# Altium schematic symbol library МЦТР.00010582.00.002.SCHLIB: 23 symbols
Pins are listed as number, name and electrical type; pins without a type are passive.

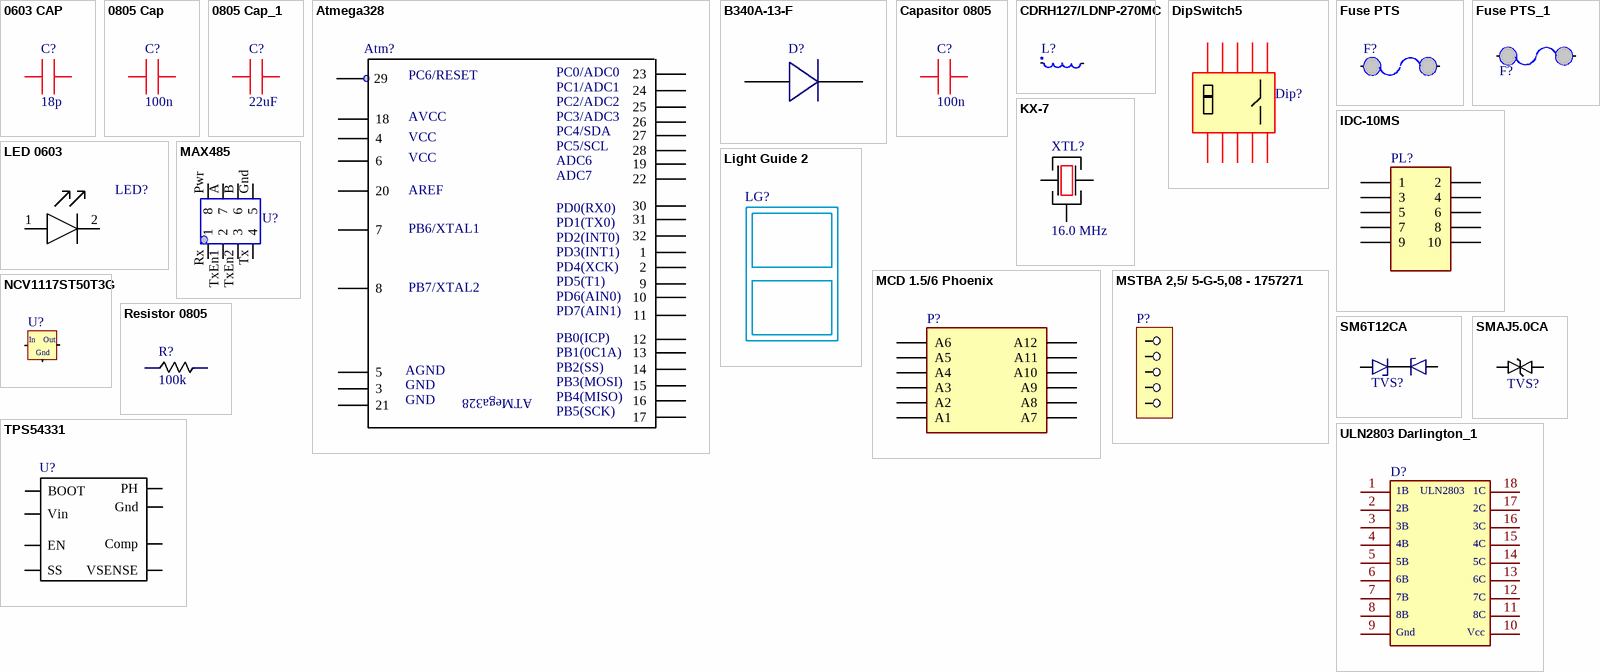
[diagram p0: symbols 0603 CAP to ULN2803 Darlington_1]

## 0603 CAP
designator C?, comment 18p
Part Description: Multilayer Ceramic Capacitor 50 V 18 pF C0G 0603 5%; Part Number: CC0603JRNPO9BN180
footprint 0603_Cap
pins: 1, 2

## 0805 Cap
designator C?, comment 100n
Part Description: Multilayer Ceramic Capacitor 50 V 0.1uF Y5V 0603 -20/+80%; Part Number: CC0603ZRY5V9BB104
footprint 0603_Cap
pins: 1, 2

## 0805 Cap_1
designator C?, comment 22uF
Part Description: Multilayer Ceramic Capacitor 16V 22uF X5R 1206 10%; Part Number: CC1206KKX5R7BB226
footprint 1206_CAP
pins: 1, 2

## Atmega328
designator Atm?
Part Description: 8-bit MCU 32KB 20MHz 1.8V-5.5V; Part Number: Atmega328P-AU
footprint Atmega168
pins: 1, 2, 3, 4, 5, 6, 7, 8, 9, 10, 11, 12, 13, 14, 15, 16, 17, 18, 19, 20, 21, 22, 23, 24, 25, 26, 27, 28, 29, 30, 31, 32
text: PC6/RESET; PC0/ADC0; PC1/ADC1; PC2/ADC2; AVCC; PC3/ADC3; VCC; PC4/SDA; PC5/SCL; ADC6; ADC7; AREF; PD0(RX0); PD1(TX0); PB6/XTAL1; PD2(INT0); PD3(INT1); PD4(XCK); PD5(T1); PB7/XTAL2; PD6(AIN0); PD7(AIN1); PB0(ICP); PB1(0C1A); PB2(SS); AGND; PB3(MOSI); GND; ATMega328; PB4(MISO); PB5(SCK)

## B340A-13-F
designator D?
Part Description: B340A-13-F; Part Number: Schottky Diode 40V 3A
footprint B340A-13-F
pins: 1, 2 1

## Capasitor 0805
designator C?, comment 100n
Part Description: Multilayer Ceramic Capacitor 50 V 0.1uF Y5V 0603 -20/+80%; Part Number: CC0603ZRY5V9BB104
footprint 0603_Cap
pins: 1, 2

## CDRH127/LDNP-270MC
designator L?
Part Description: Power Inductors - SMD 22uH 4.7A; Part Number: CDRH127/LDNP-220MC
footprint CDRH127/LDNP-270MC,
pins: 1, 2

## DipSwitch5
designator Dip?
Part Description: Bit switch 5 bits; Part Number: DPL-05-V
footprint DipSwitch 5
pins: 1, 2 3, 3 5, 4 7, 5 9, 12 10, 13 8, 14 6, 15 4, 16 2

## Fuse PTS
designator F?
Part Description: Resettable Fuses - PPTC 30V 300MA; Part Number: MF-MSMF030-2
footprint Fuse USMF030
pins: 0, 1

## Fuse PTS_1
designator F?
Part Description: Resettable Fuses - PPTC 30V 50MA; Part Number: MF-USMF005-2
footprint 1210_MF
pins: 1, 2

## IDC-10MS
designator PL?
Part Description: Socket; IDC; male; PIN: 10; straight;; Part Number: DS1013-10SSIB1-B-0
footprint IDC-10MS
pins: 1, 2, 3, 4, 5, 6, 7, 8, 9, 10

## KX-7
designator XTL?, comment 16.0 MHz
Part Description: CRYSTAL 16.0000MHZ 18PF; Part Number: Geyer KX-7 16.0 MHz
footprint KX-7 XTAL
pins: 1 5, 2, 3 5

## LED 0603
designator LED?
Part Number: KP-1608SGC; Part Description: 0603 Single Colour LED Green
footprint 0603 - LED
pins: 1, 2

## Light Guide 2
designator LG?
Part Number: 5151094F; Part Description: Light Guide
footprint LED SMD DayLight

## MAX485
designator U?
Part Description: RS-485 Interface IC Low-Power; Part Number: SN65HVD3082EDR
footprint EIA485 (SOIC, 8-Leads, Body 4,90x3,90mm, Pitch 1,27mm, IPC Medium Density)
pins: A 7, B 6, Gnd 5, Pwr 8, Rx 1, Tx 4, TxEn1 2, TxEn2 3

## MCD 1.5/6 Phoenix
designator P?
Part Description: Pluggable Terminal Blocks; Part Number: MCD 1.5/6 Phoenix; LatestRevisionDate: 17-Jul-2002; LatestRevisionNote: Re-released for DXP Platform.; Publisher: Altium Limited
footprint mcd 1,5/6-G1-3.81
pins: 1 A6, 2 A12, 3 A5, 4 A11, 5 A4, 6 A10, 7 A3, 8 A9, 9 A2, 10 A8, 11 A1, 12 A7

## MSTBA 2,5/ 5-G-5,08 - 1757271
designator P?
Part Description: Pluggable Terminal Blocks 5 Pos; Part Number: MSTBA 2,5/ 5-G-5,08 - 1757271
footprint MSTBA 1757271
pins: 1, 2, 3, 4 2, 5 3

## NCV1117ST50T3G
designator U?
Part Description: LDO 800MA 5V; Part Number: LM1117MPX-5.0
footprint SOT223
pins: 1 GND, 2 OUT, 3 IN
text: In; Out; Gnd

## Resistor 0805
designator R?, comment 100k
Part Description: Thick Film Resistor - 0603, 100kOhms, 1%, 1/10W; Part Number: RC0603FR-07100KL
footprint 0603_Res
pins: 1, 2

## SM6T12CA
designator TVS?
Part Description: TVS Diodes 600W 12V Bidirect; Part Number: SM6T12CA
footprint SM6T
pins: 1, 2

## SMAJ5.0CA
designator TVS?
Part Description: ESD Protection Diodes 5volts 800/1600uA 43.5 Amps Bi-Dir; Part Number: SMAJ5.0CA
footprint DO-214AC
pins: 1, 2

## TPS54331
designator U?
Part Description: Switching Voltage Regulators 3A 28V; Part Number: TPS54331DR
footprint SOIC 8
pins: 1 BOOT, 2 Vin, 3 EN, 4 SS, 5 VSENSE, 6 Comp, 7 Gnd, 8 PH

## ULN2803 Darlington_1
designator D?
Part Description: Darlington Transistors Eight NPN Array; Part Number: ULN2803ADWR
footprint SOIC 18
pins: 1, 2, 3, 4, 5, 6, 7, 8, 9, 10, 11, 12, 13, 14, 15, 16, 17, 18
text: 1B; ULN2803; 1C; 2B; 2C; 3B; 3C; 4B; 4C; 5B; 5C; 6B; 6C; 7B; 7C; 8B; 8C; Gnd; Vcc